# EAGLE library part OPA462IDDAR (library OPA462IDDAR)
High-Voltage, High-Current (30-mA) Operational Amplifier Source: Datasheet <https://www.ti.com/lit/gpn/OPA462>
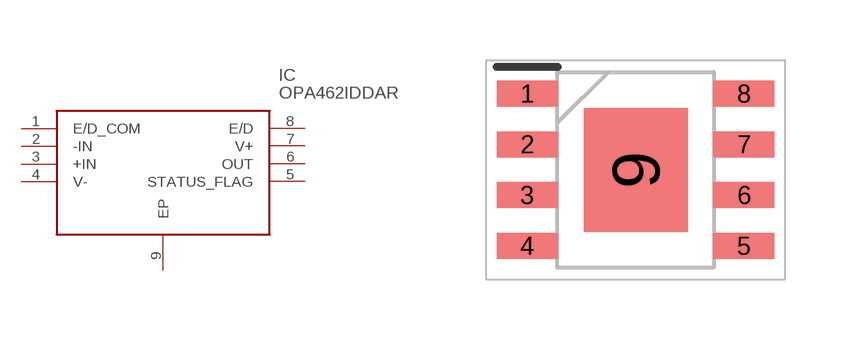
[diagram p0: symbol with the pads of SOIC127P600X170-9N; footprint SOIC127P600X170-9N]

Designator prefix IC

## OPA462IDDAR (Description: High-Voltage, High-Current (30-mA) Operational Amplifier; Height: 1.7mm; Manufacturer_Name: Texas Instruments; Manufacturer_Part_Number: OPA462IDDAR; Mouser_Part_Number: 595-OPA462IDDAR; Mouser_Price-Stock: https://www.mouser.co.uk/ProductDetail/Texas-Instruments/OPA462IDDAR?qs=9r4v7xj2Lnl6T1pF18R4kw%3D%3D)  [SOIC127P600X170-9N]
1  E/D_COM
2  -IN
3  +IN
4  V-
5  STATUS_FLAG
6  OUT
7  V+
8  E/D
9  EP

## Footprint SOIC127P600X170-9N (pad centres in mm)
DDA0008J
smd 1.525 x 0.65: 1 -2.712,1.905; 2 -2.712,0.635; 3 -2.712,-0.635; 4 -2.712,-1.905; 5 2.712,-1.905; 6 2.712,-0.635; 7 2.712,0.635; 8 2.712,1.905
smd 2.6 x 3.1: 9 0,0